# EAGLE library part ESPSAGPIN (library SpatMuy2022)
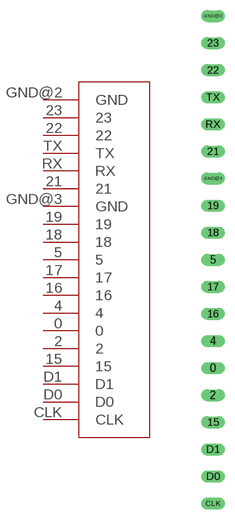
[diagram p6: symbol with the pads of ESPSAGPIN; footprint ESPSAGPIN]

Designator prefix -

## ESPSAGPIN  [ESPSAGPIN]
0  0
2  2
4  4
5  5
15  15
16  16
17  17
18  18
19  19
21  21
22  22
23  23
CLK  CLK
D0  D0
D1  D1
GND@2  GND
GND@3  GND
RX  RX
TX  TX

## Footprint ESPSAGPIN (pad centres in mm)
drill 0.6 long: 0 0,0; 2 0,-2.54; 4 0,2.54; 5 0,10.16; 15 0,-5.08; 16 0,5.08; 17 0,7.62; 18 0,12.7; 19 0,15.24; 21 0,20.32; 22 0,27.94; 23 0,30.48; CLK 0,-12.7; D0 0,-10.16; D1 0,-7.62; GND@2 0,33.02; GND@3 0,17.78; RX 0,22.86; TX 0,25.4